# Altium integrated library 2.54-1x6P.IntLib: 1 symbol
Pins are listed as number, name and electrical type; pins without a type are passive.

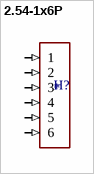
[diagram p0: symbol 2.54-1x6P]

## 2.54-1x6P
designator H?  (value not drawn)
Pin Headers. -40C~+105C 1 1x6P 2.54mm 2.5mm 3A 3mm 6P 6mm Black Brass Gold Pin Header Through Hole ,P=2.54mm Pin Headers ROHS; Manufacturer: BOOMELE(Boom Precision Elec); Component Type: Standard; Design Item ID: 2.54-1x6P; Value: *; JLCPCB Part #: C37208; Manufacturer Part Number: 2.54-1x6P
footprint 2.54-1x6P (HDR-TH_6P-P2.54-V-M-1)
pins: 1 (in), 2 (in), 3 (in), 4 (in), 5 (in), 6 (in)